# EAGLE library part AT_1SH-A-05-XS (library added_parts)
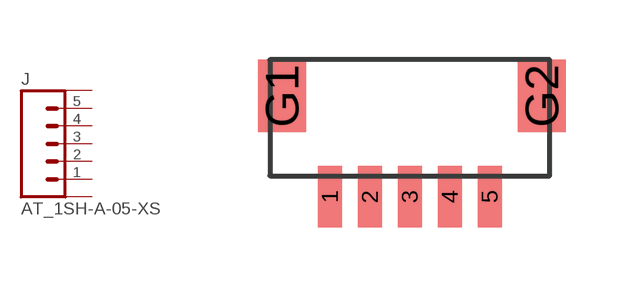
[diagram p3: symbol with the pads of AT_1SH-A-05-XS; footprint AT_1SH-A-05-XS]

Designator prefix J

## AT_1SH-A-05-XS  [AT_1SH-A-05-XS]
1  1  pas
2  2  pas
3  3  pas
4  4  pas
5  5  pas
G1  G1  pas
G2  G2  pas

## Footprint AT_1SH-A-05-XS (pad centres in mm)
smd 0.6 x 1.55: 1 -2,-2; 2 -1,-2; 3 0,-2; 4 1,-2; 5 2,-2
smd 1.2 x 1.8: G1 -3.2,0.525; G2 3.3,0.525